# EAGLE library part MATRIX_8X8_ROWCATHODE (library matrix_parts)
8x8 LED Matrix Displays: Row = Cathode 38mm Green 8x8 Matrix, 3.7mm Round LEDs - TA15-11CGKWA
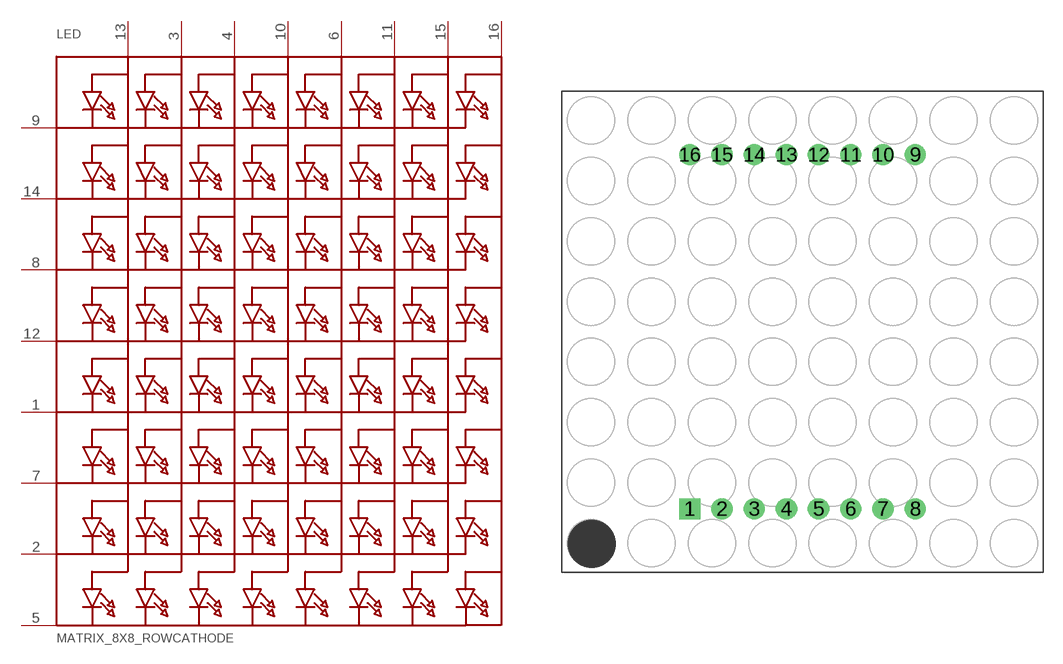
[diagram p0: symbol with the pads of TA15-11CGKWA; footprint TA15-11CGKWA]

Designator prefix LED

## MATRIX_8X8_ROWCATHODE  [TA15-11CGKWA]
1  K5
2  K7
3  A2
4  A3
5  K8
6  A5
7  K6
8  K3
9  K1
10  A4
11  A6
12  K4
13  A1
14  K2
15  A7
16  A8

## Footprint TA15-11CGKWA (pad centres in mm)
Kingbright 38mm (1.5") 8x8 DOT Matrix Display Kingbright part no.: TA15-11CGKWA RS Part No.: 871-4690
drill 0.8 pad 1.676 square: 1 -8.89,-13.97
drill 0.8 pad 1.676: 2 -6.35,-13.97; 3 -3.81,-13.97; 4 -1.27,-13.97; 5 1.27,-13.97; 6 3.81,-13.97; 7 6.35,-13.97; 8 8.89,-13.97; 9 8.89,13.97; 10 6.35,13.97; 11 3.81,13.97; 12 1.27,13.97; 13 -1.27,13.97; 14 -3.81,13.97; 15 -6.35,13.97; 16 -8.89,13.97